# EAGLE library part ADP320X (library lib_stankus)
Analog Devices ADP320X
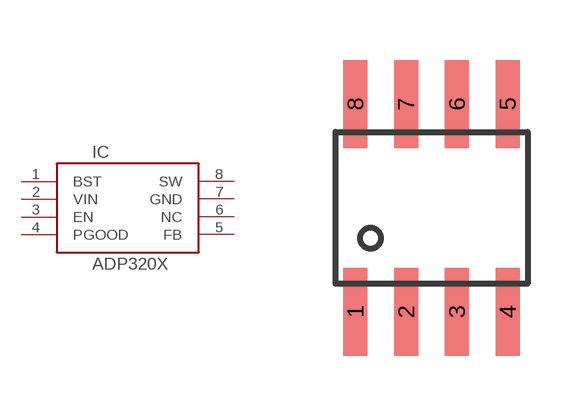
[diagram p88: symbol with the pads of SOIC8; footprint SOIC8]

Designator prefix IC

## ADP320X-SOIC8  [SOIC8]
1  BST  pas
2  VIN  pas
3  EN  pas
4  PGOOD  pas
5  FB  pas
6  NC  pas
7  GND  pas
8  SW  pas

## Footprint SOIC8 (pad centres in mm)
SOIC8
smd 0.6 x 2.2: 1 -1.905,-2.6; 2 -0.635,-2.6; 3 0.635,-2.6; 4 1.905,-2.6; 5 1.905,2.6; 6 0.635,2.6; 7 -0.635,2.6; 8 -1.905,2.6